# EAGLE library part HIROSE_DF17_20POS (library greghale_eib_preamp)
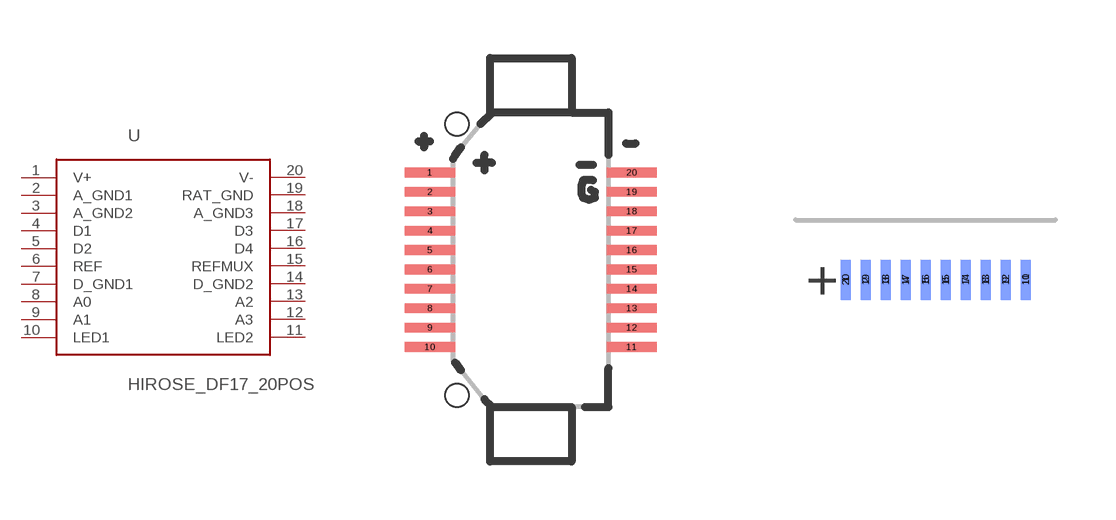
[diagram p4: symbol with the pads of HIROSE_DF17_20_TOPVIEW; footprints HIROSE_DF17_20_TOPVIEW, HIROSE_DF17_20_SIDEMOUNT]

Designator prefix -

## HIROSE_DF17_20POSTOPVIEW  [HIROSE_DF17_20_TOPVIEW]
1  V+
2  A_GND1
3  A_GND2
4  D1
5  D2
6  REF
7  D_GND1
8  A0
9  A1
10  LED1
11  LED2
12  A3
13  A2
14  D_GND2
15  REFMUX
16  D4
17  D3
18  A_GND3
19  RAT_GND
20  V-

## HIROSE_DF17_20POSSIDEMOUNT  [HIROSE_DF17_20_SIDEMOUNT]
Pads as for HIROSE_DF17_20_TOPVIEW

## Footprint HIROSE_DF17_20_TOPVIEW (pad centres in mm)
smd 1.3 x 0.25: 1 -2.56,2.25; 2 -2.56,1.75; 3 -2.56,1.25; 4 -2.56,0.75; 5 -2.56,0.25; 6 -2.56,-0.25; 7 -2.56,-0.75; 8 -2.56,-1.25; 9 -2.56,-1.75; 10 -2.56,-2.25; 11 2.64,-2.25; 12 2.64,-1.75; 13 2.64,-1.25; 14 2.64,-0.75; 15 2.64,-0.25; 16 2.64,0.25; 17 2.64,0.75; 18 2.64,1.25; 19 2.64,1.75; 20 2.64,2.25
hole 0.6 at -1.86,3.5
hole 0.6 at -1.86,-3.5

## Footprint HIROSE_DF17_20_SIDEMOUNT (pad centres in mm)
smd 0.25 x 1: 1 -2.23,-0.5; 2 -1.73,-0.5; 3 -1.23,-0.5; 4 -0.73,-0.5; 5 -0.23,-0.5; 6 0.27,-0.5; 7 0.77,-0.5; 8 1.27,-0.5; 9 1.77,-0.5; 10 2.27,-0.5
smd 0.25 x 1 bottom: 11 2.27,-0.5; 12 1.77,-0.5; 13 1.27,-0.5; 14 0.77,-0.5; 15 0.27,-0.5; 16 -0.23,-0.5; 17 -0.73,-0.5; 18 -1.23,-0.5; 19 -1.73,-0.5; 20 -2.23,-0.5